# Altium schematic symbol library VI_monitor.SchLib: 3 symbols
Pins are listed as number, name and electrical type; pins without a type are passive.

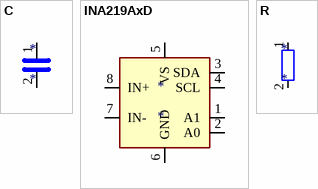
[diagram p0: symbols C to R]

## C
designator *
pins: 1, 2

## INA219AxD
designator *
pins: 1 A1, 2 A0, 3 SDA, 4 SCL, 5 VS, 6 GND, 7 IN-, 8 IN+

## R
designator *
pins: 1, 2